# EAGLE library part QUAD-2IN-GATE (library BrownSpaceEngineering)
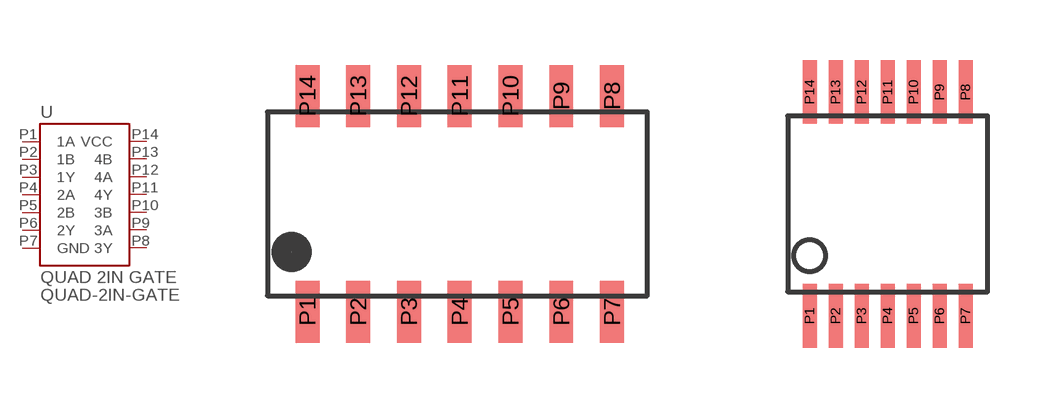
[diagram p29: symbol with the pads of SOIC-14; footprints SOIC-14, TSSOP-14]

Designator prefix U

## QUAD-2IN-GATE-NAND-SN74LV00ADR  [SOIC-14]
P1  1A
P2  1B
P3  1Y
P4  2A
P5  2B
P6  2Y
P7  GND
P8  3Y
P9  3A
P10  3B
P11  4Y
P12  4A
P13  4B
P14  VCC

## QUAD-2IN-GATE-OR-SN74LV32APWRG4  [TSSOP-14]
Pads as for SOIC-14

## QUAD-2IN-GATE-AND-SN74AHC08RGYR  [VQFN-14]
Pads as for SOIC-14

## QUAD-2IN-GATE-XOR-SN74LV86APWR  [TSSOP-14]
Pads as for SOIC-14

## Footprint SOIC-14 (pad centres in mm)
smd 0.6 x 1.55: P1 0,0; P2 1.27,0; P3 2.54,0; P4 3.81,0; P5 5.08,0; P6 6.35,0; P7 7.62,0; P8 7.62,5.4; P9 6.35,5.4; P10 5.08,5.4; P11 3.81,5.4; P12 2.54,5.4; P13 1.27,5.4; P14 0,5.4

## Footprint TSSOP-14 (pad centres in mm)
smd 0.35 x 1.6: P1 -1.95,-2.8; P2 -1.3,-2.8; P3 -0.65,-2.8; P4 0,-2.8; P5 0.65,-2.8; P6 1.3,-2.8; P7 1.95,-2.8; P8 1.95,2.8; P9 1.3,2.8; P10 0.65,2.8; P11 0,2.8; P12 -0.65,2.8; P13 -1.3,2.8; P14 -1.95,2.8

## Footprint VQFN-14 (pad centres in mm)
smd 0.85 x 0.28: P1 -1.725,-0.75; P7 1.725,-0.75; P8 1.725,0.75; P14 -1.725,0.75
smd 0.28 x 0.85: P2 -1,-1.725; P3 -0.5,-1.725; P4 0,-1.725; P5 0.5,-1.725; P6 1,-1.725; P9 1,1.725; P10 0.5,1.725; P11 0,1.725; P12 -0.5,1.725; P13 -1,1.725
smd 2.05 x 2.05: PAD 0,0